# Altium footprint library Winbond_W25Q128JVPIQ.PcbLib: 1 footprints
Each footprint in its own frame and in the unit in brackets; x right, y up, seen from the top. Pads: shape width x height; smd on the part's side, far side on the other; paste and mask are expansions set on the pad; w line width, h text height; cw(c..) or ccw(c..) is an arc to the next point about the centre after c.
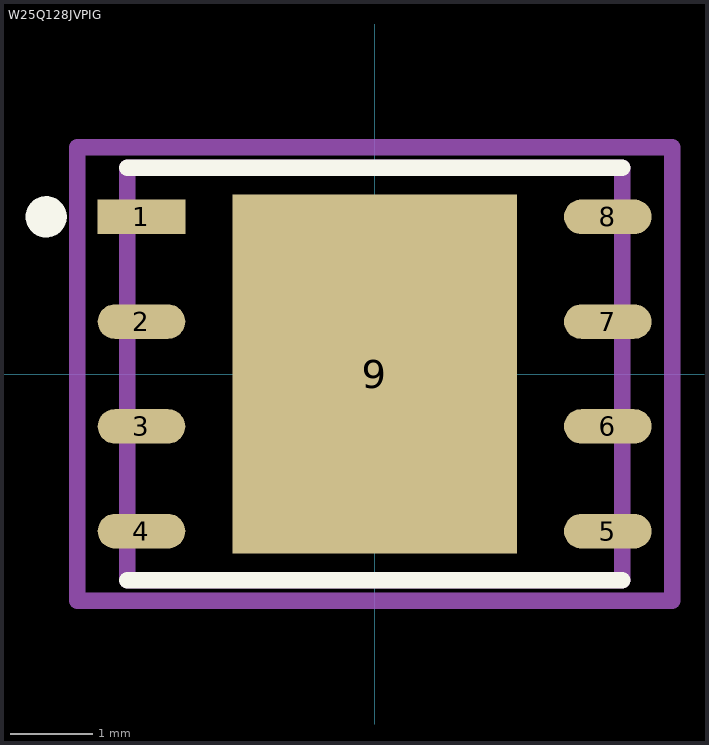
[diagram p0: the footprint, top view; thin cyan lines are the x and y axes]

## W25Q128JVPIG [mm]
pads (9):
  rect 1.061x0.418 smd: 1(-2.826,1.905)
  rrect100% 1.061x0.418 smd: 2(-2.826,0.635) 3(-2.826,-0.635) 4(-2.826,-1.905) 5(2.826,-1.905) 6(2.826,-0.635) 7(2.826,0.635) 8(2.826,1.905)
  rect 3.45x4.35 smd: 9(0,0)
Top Overlay:
  circle w0.25: c-3.981,1.905 r0.125
  lines w0.2: -3,-2.5 3,-2.5 ; -3,2.5 3,2.5
Top Paste:
  rectangle: -1.021,-1.471 1.021,1.471
Mechanical 10:
  lines w0.2: -3.606,-2.75 3.606,-2.75 3.606,2.75 -3.606,2.75 -3.606,-2.75
  text ".Designator" at 0,0 h1
Mechanical 12:
  lines w0.2: -3,-2.5 3,-2.5 3,2.5 -3,2.5 -3,-2.5
Mechanical 15:
  lines w0.1: -0.5,0 0.5,0 ; 0,-0.5 0,0.5
  lines w0.2: -3.606,-2.75 3.606,-2.75 3.606,2.75 -3.606,2.75 -3.606,-2.75
3D body "IC_Winbond_W25Q64FVZPIG_eec.STEP": height 0.25, standoff 0, extent -3.606,-2.75 3.606,2.75